# Altium footprint library MMSZ5225BT1G.PCBLIB: 3 footprints
Each footprint in its own frame and in the unit in brackets; x right, y up, seen from the top. Pads: shape width x height; smd on the part's side, far side on the other; paste and mask are expansions set on the pad; w line width, h text height; cw(c..) or ccw(c..) is an arc to the next point about the centre after c.
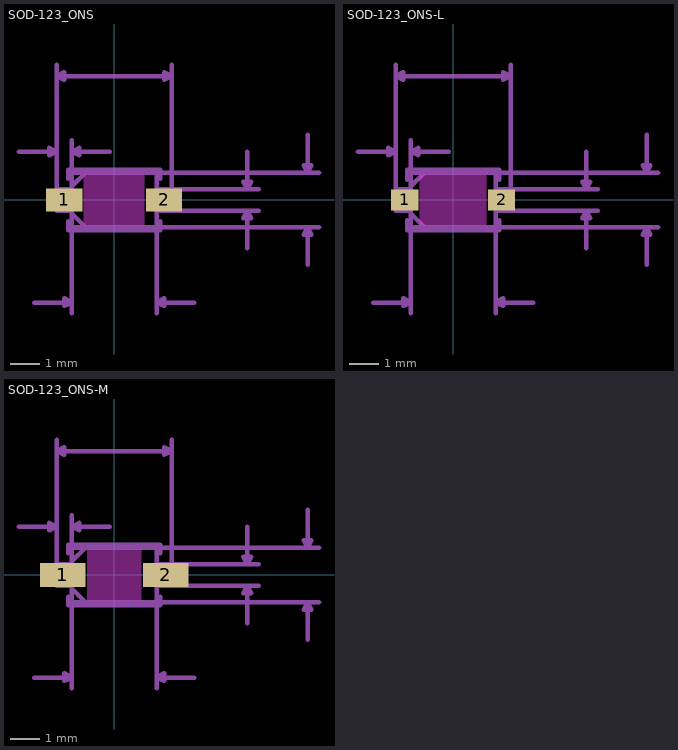
[diagram p0: the footprints below, top view; thin cyan lines are the x and y axes]

## SOD-123_ONS [mil]
pads (2):
  rect 48x30 smd: 1(-66,0) 2(66,0)
Top keep-out:
  region: -40,33.5 40,33.5 40,-33.5 -40,-33.5
tDocu:
  lines w6: -56,-18 -38,-36 ; -56,18 -38,36 ; -76,-14 -76,14 -56,14 -56,-14 -76,-14 ; -56,-36 56,-36 56,36 -56,36 -56,-36 ; 56,-14 56,14 76,14 76,-14 56,-14
  text "*" at -69,-25 h77.5
tPlace:
  lines w6: -61,-28 -61,-40 61,-40 61,-28 ; -61,28 -61,40 61,40 61,28
  text "*" at -128,-25 h77.5
Measures:
  lines w6: -126,64 -76,64 ; -106,-136 -56,-136 ; -76,0 -76,64 ; -76,179 -76,164 ; -56,-150 -56,-136 ; -56,79 -56,64 ; -6,64 -56,64 ; 0,-36 256,-36 ; 0,36 256,36 ; 56,-150 56,-136 ; 56,0 56,-136 ; 76,-14 176,-14 ; 76,0 76,14 ; 76,179 76,164 ; 106,-136 56,-136 ; 176,-64 176,-14 ; 176,64 176,14 ; 191,-14 176,-14 ; 191,14 176,14 ; 256,-86 256,-36 ; 256,86 256,36 ; 271,-36 256,-36 ; 271,36 256,36 ; -76,64 -76,164 ; -76,64 -86,69 -86,59 -76,64 ; -76,164 76,164 ; -76,164 -66,169 -66,159 -76,164 ; -56,-136 -56,64 ; -56,-136 -66,-130 -66,-140 -56,-136 ; -56,64 -46,69 -46,59 -56,64 ; 56,-136 66,-130 66,-140 56,-136 ; 76,14 76,164 ; 76,14 176,14 ; 76,164 66,169 66,159 76,164 ; 176,-14 171,-24 181,-24 176,-14 ; 176,14 171,24 181,24 176,14 ; 256,-36 251,-46 261,-46 256,-36 ; 256,36 251,46 261,46 256,36
  text "Default Padstyle: RX48Y30D0T" at -599,-340 h77.5
  text "Alt 1 Padstyle: OX60Y90D30P" at -583,-415 h77.5
  text "Alt 2 Padstyle: OX90Y60D30P" at -583,-490 h77.5
  text "0.152in/3.861mm" at -159,184 h38.75
  text "0.02in/0.508mm" at -214,84 h38.75
  text "0.028in/0.711mm" at 196,-12 h38.75
  text "0.071in/1.803mm" at 276,-12 h38.75
  text "0.112in/2.845mm" at -159,-180 h38.75

## SOD-123_ONS-L [mil]
pads (2):
  rect 36x28 smd: 1(-64,0) 2(64,0)
Top keep-out:
  region: -44,33.5 44,33.5 44,-33.5 -44,-33.5
tDocu:
  lines w6: -56,-18 -38,-36 ; -56,18 -38,36 ; -76,-14 -76,14 -56,14 -56,-14 -76,-14 ; -56,-36 56,-36 56,36 -56,36 -56,-36 ; 56,-14 56,14 76,14 76,-14 56,-14
  text "*" at -69,-25 h77.5
tPlace:
  lines w6: -61,-27 -61,-40 61,-40 61,-27 ; -61,27 -61,40 61,40 61,27
  text "*" at -120,-25 h77.5
Measures:
  lines w6: -126,64 -76,64 ; -106,-136 -56,-136 ; -76,0 -76,64 ; -76,179 -76,164 ; -56,-150 -56,-136 ; -56,79 -56,64 ; -6,64 -56,64 ; 0,-36 256,-36 ; 0,36 256,36 ; 56,-150 56,-136 ; 56,0 56,-136 ; 76,-14 176,-14 ; 76,0 76,14 ; 76,179 76,164 ; 106,-136 56,-136 ; 176,-64 176,-14 ; 176,64 176,14 ; 191,-14 176,-14 ; 191,14 176,14 ; 256,-86 256,-36 ; 256,86 256,36 ; 271,-36 256,-36 ; 271,36 256,36 ; -76,64 -76,164 ; -76,64 -86,69 -86,59 -76,64 ; -76,164 76,164 ; -76,164 -66,169 -66,159 -76,164 ; -56,-136 -56,64 ; -56,-136 -66,-130 -66,-140 -56,-136 ; -56,64 -46,69 -46,59 -56,64 ; 56,-136 66,-130 66,-140 56,-136 ; 76,14 76,164 ; 76,14 176,14 ; 76,164 66,169 66,159 76,164 ; 176,-14 171,-24 181,-24 176,-14 ; 176,14 171,24 181,24 176,14 ; 256,-36 251,-46 261,-46 256,-36 ; 256,36 251,46 261,46 256,36
  text "Default Padstyle: RX36Y28D0T" at -599,-339 h77.5
  text "Alt 1 Padstyle: OX60Y90D30P" at -583,-414 h77.5
  text "Alt 2 Padstyle: OX90Y60D30P" at -583,-489 h77.5
  text "0.152in/3.861mm" at -159,184 h38.75
  text "0.02in/0.508mm" at -214,84 h38.75
  text "0.028in/0.711mm" at 196,-12 h38.75
  text "0.071in/1.803mm" at 276,-12 h38.75
  text "0.112in/2.845mm" at -159,-180 h38.75

## SOD-123_ONS-M [mil]
pads (2):
  rect 60x32 smd: 1(-68,0) 2(68,0)
Top keep-out:
  region: -36,33.5 36,33.5 36,-33.5 -36,-33.5
tDocu:
  lines w6: -56,-18 -38,-36 ; -56,18 -38,36 ; -76,-14 -76,14 -56,14 -56,-14 -76,-14 ; -56,-36 56,-36 56,36 -56,36 -56,-36 ; 56,-14 56,14 76,14 76,-14 56,-14
  text "*" at -69,-25 h77.5
tPlace:
  lines w6: -61,-29 -61,-40 61,-40 61,-29 ; -61,29 -61,40 61,40 61,29
  text "*" at -136,-25 h77.5
Measures:
  lines w6: -126,64 -76,64 ; -106,-136 -56,-136 ; -76,0 -76,64 ; -76,179 -76,164 ; -56,-150 -56,-136 ; -56,79 -56,64 ; -6,64 -56,64 ; 0,-36 256,-36 ; 0,36 256,36 ; 56,-150 56,-136 ; 56,0 56,-136 ; 76,-14 176,-14 ; 76,0 76,14 ; 76,179 76,164 ; 106,-136 56,-136 ; 176,-64 176,-14 ; 176,64 176,14 ; 191,-14 176,-14 ; 191,14 176,14 ; 256,-86 256,-36 ; 256,86 256,36 ; 271,-36 256,-36 ; 271,36 256,36 ; -76,64 -76,164 ; -76,64 -86,69 -86,59 -76,64 ; -76,164 76,164 ; -76,164 -66,169 -66,159 -76,164 ; -56,-136 -56,64 ; -56,-136 -66,-130 -66,-140 -56,-136 ; -56,64 -46,69 -46,59 -56,64 ; 56,-136 66,-130 66,-140 56,-136 ; 76,14 76,164 ; 76,14 176,14 ; 76,164 66,169 66,159 76,164 ; 176,-14 171,-24 181,-24 176,-14 ; 176,14 171,24 181,24 176,14 ; 256,-36 251,-46 261,-46 256,-36 ; 256,36 251,46 261,46 256,36
  text "Default Padstyle: RX60Y32D0T" at -599,-341 h77.5
  text "Alt 1 Padstyle: OX60Y90D30P" at -583,-416 h77.5
  text "Alt 2 Padstyle: OX90Y60D30P" at -583,-491 h77.5
  text "0.152in/3.861mm" at -159,184 h38.75
  text "0.02in/0.508mm" at -214,84 h38.75
  text "0.028in/0.711mm" at 196,-12 h38.75
  text "0.071in/1.803mm" at 276,-12 h38.75
  text "0.112in/2.845mm" at -159,-180 h38.75